# EAGLE library part MS5611-01BA03 (library LARS_409_SENSORS)
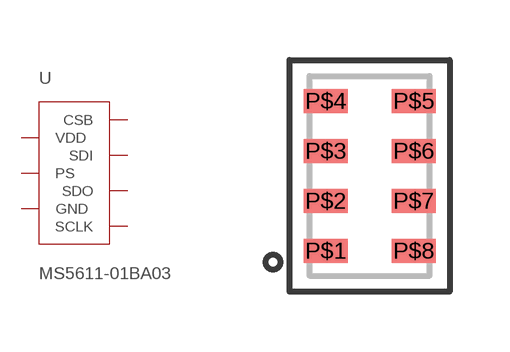
[diagram p4: symbol with the pads of QFN5X3; footprint QFN5X3]

Designator prefix U

## MS5611-01BA03  [QFN5X3]
P$1  CSB
P$2  GND
P$3  PS
P$4  VDD
P$5  SCLK
P$6  SDI
P$7  SDO
P$8  CSB

## Footprint QFN5X3 (pad centres in mm)
smd 1.1 x 0.6: P$1 -1.1,-1.875; P$2 -1.1,-0.625; P$3 -1.1,0.625; P$4 -1.1,1.875; P$5 1.1,1.875; P$6 1.1,0.625; P$7 1.1,-0.625; P$8 1.1,-1.875